# EAGLE library part PTS-PORT (library PTS_Board_Lib)
PTS Connector for controlling Freq. & Amplitude; Connected through VHDCI plug, will need adapter to CN50.
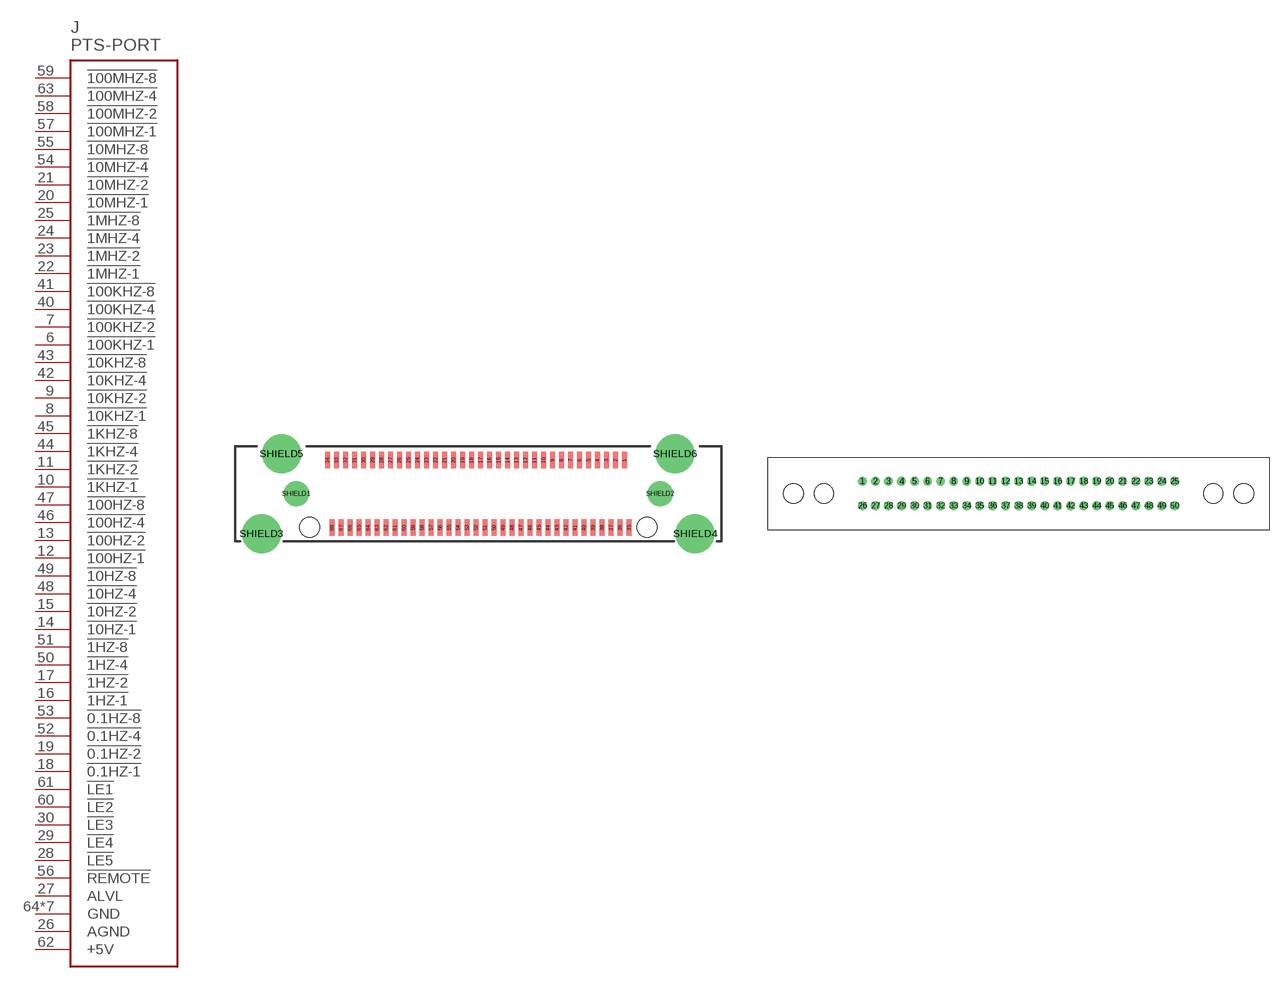
[diagram p3: symbol with the pads of MOLEX-73776-0201; footprints MOLEX-73776-0201, TE-554758-1]

Designator prefix J

## PTS-PORT-VHDCI  [MOLEX-73776-0201]
6  !100KHZ-1  in
7  !100KHZ-2  in
8  !10KHZ-1  in
9  !10KHZ-2  in
10  !1KHZ-1  in
11  !1KHZ-2  in
12  !100HZ-1  in
13  !100HZ-2  in
14  !10HZ-1  in
15  !10HZ-2  in
16  !1HZ-1  in
17  !1HZ-2  in
18  !0.1HZ-1  in
19  !0.1HZ-2  in
20  !10MHZ-1  in
21  !10MHZ-2  in
22  !1MHZ-1  in
23  !1MHZ-2  in
24  !1MHZ-4  in
25  !1MHZ-8  in
26  AGND  pwr
27  ALVL  in
28  !LE5  in
29  !LE4  in
30  !LE3  in
40  !100KHZ-4  in
41  !100KHZ-8  in
42  !10KHZ-4  in
43  !10KHZ-8  in
44  !1KHZ-4  in
45  !1KHZ-8  in
46  !100HZ-4  in
47  !100HZ-8  in
48  !10HZ-4  in
49  !10HZ-8  in
50  !1HZ-4  in
51  !1HZ-8  in
52  !0.1HZ-4  in
53  !0.1HZ-8  in
54  !10MHZ-4  in
55  !10MHZ-8  in
56  !REMOTE  in
57  !100MHZ-1  in
58  !100MHZ-2  in
59  !100MHZ-8  in
60  !LE2  in
61  !LE1  in
62  +5V
63  !100MHZ-4  in
64  GND  pwr
SHIELD1  GND  pwr
SHIELD2  GND  pwr
SHIELD3  GND  pwr
SHIELD4  GND  pwr
SHIELD5  GND  pwr
SHIELD6  GND  pwr

## PTS-PORT-CN50  [TE-554758-1]
1  !100KHZ-1  in
2  !100KHZ-2  in
3  !10KHZ-1  in
4  !10KHZ-2  in
5  !1KHZ-1  in
6  !1KHZ-2  in
7  !100HZ-1  in
8  !100HZ-2  in
9  !10HZ-1  in
10  !10HZ-2  in
11  !1HZ-1  in
12  !1HZ-2  in
13  !0.1HZ-1  in
14  !0.1HZ-2  in
15  !10MHZ-1  in
16  !10MHZ-2  in
17  !1MHZ-1  in
18  !1MHZ-2  in
19  !1MHZ-4  in
20  !1MHZ-8  in
21  AGND  pwr
22  ALVL  in
23  !LE5  in
24  !LE4  in
25  !LE3  in
26  !100KHZ-4  in
27  !100KHZ-8  in
28  !10KHZ-4  in
29  !10KHZ-8  in
30  !1KHZ-4  in
31  !1KHZ-8  in
32  !100HZ-4  in
33  !100HZ-8  in
34  !10HZ-4  in
35  !10HZ-8  in
36  !1HZ-4  in
37  !1HZ-8  in
38  !0.1HZ-4  in
39  !0.1HZ-8  in
40  !10MHZ-4  in
41  !10MHZ-8  in
42  !REMOTE  in
43  !100MHZ-1  in
44  !100MHZ-2  in
45  !100MHZ-8  in
46  !LE2  in
47  !LE1  in
48  +5V
49  !100MHZ-4  in
50  GND  pwr

## Footprint MOLEX-73776-0201 (pad centres in mm)
VHDCI SMD Receptacle
smd 0.45 x 1.5: 1 13,3; 2 12.2,3; 3 11.4,3; 4 10.6,3; 5 9.8,3; 6 9,3; 7 8.2,3; 8 7.4,3; 9 6.6,3; 10 5.8,3; 11 5,3; 12 4.2,3; 13 3.4,3; 14 2.6,3; 15 1.8,3; 16 1,3; 17 0.2,3; 18 -0.6,3; 19 -1.4,3; 20 -2.2,3; 21 -3,3; 22 -3.8,3; 23 -4.6,3; 24 -5.4,3; 25 -6.2,3; 26 -7,3; 27 -7.8,3; 28 -8.6,3; 29 -9.4,3; 30 -10.2,3; 31 -11,3; 32 -11.8,3; 33 -12.6,3; 34 -13.4,3; 35 13.4,-3; 36 12.6,-3; 37 11.8,-3; 38 11,-3; 39 10.2,-3; 40 9.4,-3; 41 8.6,-3; 42 7.8,-3; 43 7,-3; 44 6.2,-3; 45 5.4,-3; 46 4.6,-3; 47 3.8,-3; 48 3,-3; 49 2.2,-3; 50 1.4,-3; 51 0.6,-3; 52 -0.2,-3; 53 -1,-3; 54 -1.8,-3; 55 -2.6,-3; 56 -3.4,-3; 57 -4.2,-3; 58 -5,-3; 59 -5.8,-3; 60 -6.6,-3; 61 -7.4,-3; 62 -8.2,-3; 63 -9,-3; 64 -9.8,-3; 65 -10.6,-3; 66 -11.4,-3; 67 -12.2,-3; 68 -13,-3
drill 1.2 pad 2.25: SHIELD1 -16.175,0; SHIELD2 16.175,0
drill 2.44 pad 3.24: SHIELD3 -19.275,-3.55; SHIELD4 19.275,-3.55; SHIELD5 -17.485,3.55; SHIELD6 17.485,3.55
hole 1.75 at -14.995,-2.98
hole 1.75 at 14.995,-2.98

## Footprint TE-554758-1 (pad centres in mm)
50-Pin Champ (CN50), press fit. TE Connectivity/AMP
drill 0.965: 1 -25.908,2.032; 2 -23.749,2.032; 3 -21.59,2.032; 4 -19.431,2.032; 5 -17.272,2.032; 6 -15.113,2.032; 7 -12.954,2.032; 8 -10.795,2.032; 9 -8.636,2.032; 10 -6.477,2.032; 11 -4.318,2.032; 12 -2.159,2.032; 13 0,2.032; 14 2.159,2.032; 15 4.318,2.032; 16 6.477,2.032; 17 8.636,2.032; 18 10.795,2.032; 19 12.954,2.032; 20 15.113,2.032; 21 17.272,2.032; 22 19.431,2.032; 23 21.59,2.032; 24 23.749,2.032; 25 25.908,2.032; 26 -25.908,-2.032; 27 -23.749,-2.032; 28 -21.59,-2.032; 29 -19.431,-2.032; 30 -17.272,-2.032; 31 -15.113,-2.032; 32 -12.954,-2.032; 33 -10.795,-2.032; 34 -8.636,-2.032; 35 -6.477,-2.032; 36 -4.318,-2.032; 37 -2.159,-2.032; 38 0,-2.032; 39 2.159,-2.032; 40 4.318,-2.032; 41 6.477,-2.032; 42 8.636,-2.032; 43 10.795,-2.032; 44 12.954,-2.032; 45 15.113,-2.032; 46 17.272,-2.032; 47 19.431,-2.032; 48 21.59,-2.032; 49 23.749,-2.032; 50 25.908,-2.032
hole 3.302 at 37.414,0
hole 3.175 at 32.334,0
hole 3.175 at -32.334,0
hole 3.302 at -37.414,0